# EAGLE library part 750815040 (library Wurth Electronics Midcom Inc V1-0)
Package Style: EE20/10/6 7W THT Mounting: THT Pins: 16 pins Bobbin: 070-5443 Windings Primary: 209 - 265VAC, 65kHz Aux: Secondary: 20V, 7.0W Best pinouts for production vary per application. Please contact Wurth Electronics Midcom, Inc. for assistance with your custom design. Datasheet: 750815040 <http://www.we-online.com/web/en/index.php/show/media/passive_components_-_custom_magnetics/pdf_doc_files/spec_sheets/7508/750815040.pdf> Website: Wurth Electronics Midcom <http://www.we-online.com/midcom> Contact us Wurth Electronics Midcom, Inc. 121 Airport Dr. Watertown, SD 57201 Phone: (605) 886-4385 Fax: (605) 886-4486 E-Mail: midcom@we-online.com
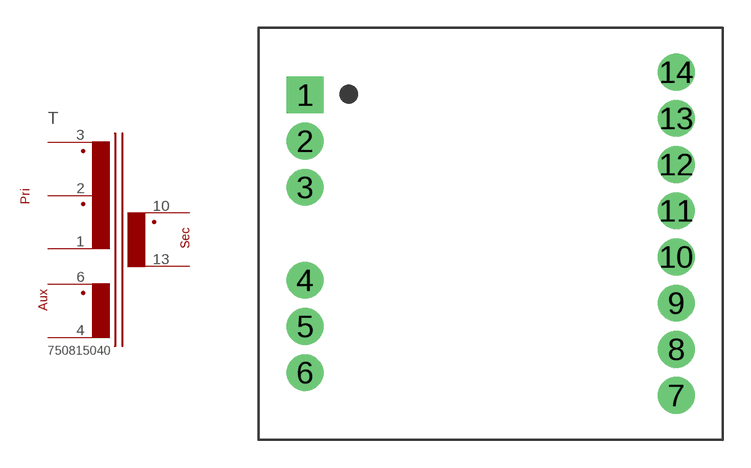
[diagram p86: symbol with the pads of 750815040; footprint 750815040]

Designator prefix T

## 750815040  [750815040]
1  3  pas
2  2  pas
3  1  pas
4  5  pas
6  4  pas
10  7  pas
13  8  pas

## Footprint 750815040 (pad centres in mm)
Package Style: Non Standard EE20/10/6 7W THT Mounting: THT Pins: 14
drill 1.321 square: 1 -9.995,7.48
drill 1.321 round: 2 -9.995,4.991; 3 -9.995,2.502; 4 -9.995,-2.502; 5 -9.995,-4.991; 6 -9.995,-7.48; 7 9.995,-8.712; 8 9.995,-6.223; 9 9.995,-3.734; 10 9.995,-1.245; 11 9.995,1.245; 12 9.995,3.734; 13 9.995,6.223; 14 9.995,8.712